# EAGLE library part STA/TDA-7360 (library Audio-Power-amlifier V.2.0)
20W BRIDGE/STEREO AUDIO AMPLIFIER WITH CLIPPING DETECTOR
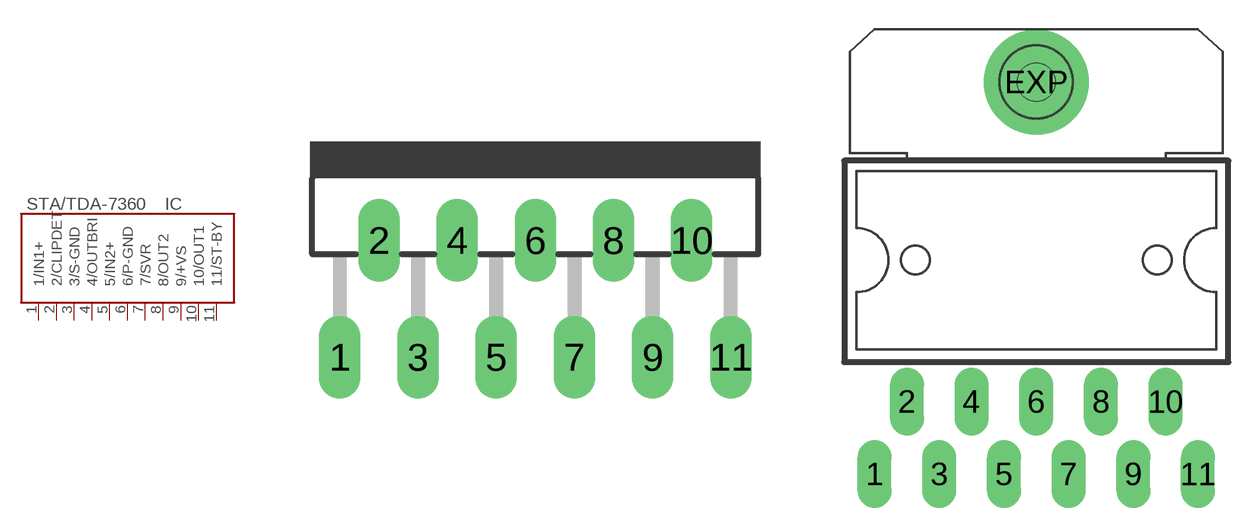
[diagram p186: symbol with the pads of MULTIWATT-11; footprints MULTIWATT-11, MULTIWAT11H]

Designator prefix IC

## STA/TDA-7360TDA7360/STA7360  [MULTIWATT-11]
1  1/IN1+  in
2  2/CLIPDET
3  3/S-GND  pwr
4  4/OUTBRI  out
5  5/IN2+  in
6  6/P-GND  pwr
7  7/SVR
8  8/OUT2  out
9  9/+VS  pwr
10  10/OUT1  out
11  11/ST-BY  in

## STA/TDA-7360TDA7360_ONLY  [MULTIWAT11H]
Pads as for MULTIWATT-11

## Footprint MULTIWATT-11 (pad centres in mm)
Muliwatt 11 lead
drill 1.2 long: 1 -8.5,-6.35; 2 -6.8,-1.27; 3 -5.1,-6.35; 4 -3.4,-1.27; 5 -1.7,-6.35; 6 0,-1.27; 7 1.7,-6.35; 8 3.4,-1.27; 9 5.1,-6.35; 10 6.8,-1.27; 11 8.5,-6.35

## Footprint MULTIWAT11H (pad centres in mm)
Multiwatt11 H (Short leads)
drill 0.9 pad 1.778 long: 1 -8.5,-3.81; 2 -6.8,0; 3 -5.1,-3.81; 4 -3.4,0; 5 -1.7,-3.81; 6 0,0; 7 1.7,-3.81; 8 3.4,0; 9 5.1,-3.81; 10 6.8,0; 11 8.5,-3.81
drill 3.2 pad 5.5: EXP 0,16.81
hole 2 at 0,16.81